# Altium footprint library PGA208E.PcbLib: 1 footprints
Each footprint in its own frame and in the unit in brackets; x right, y up, seen from the top. Pads: shape width x height; smd on the part's side, far side on the other; paste and mask are expansions set on the pad; w line width, h text height; cw(c..) or ccw(c..) is an arc to the next point about the centre after c.
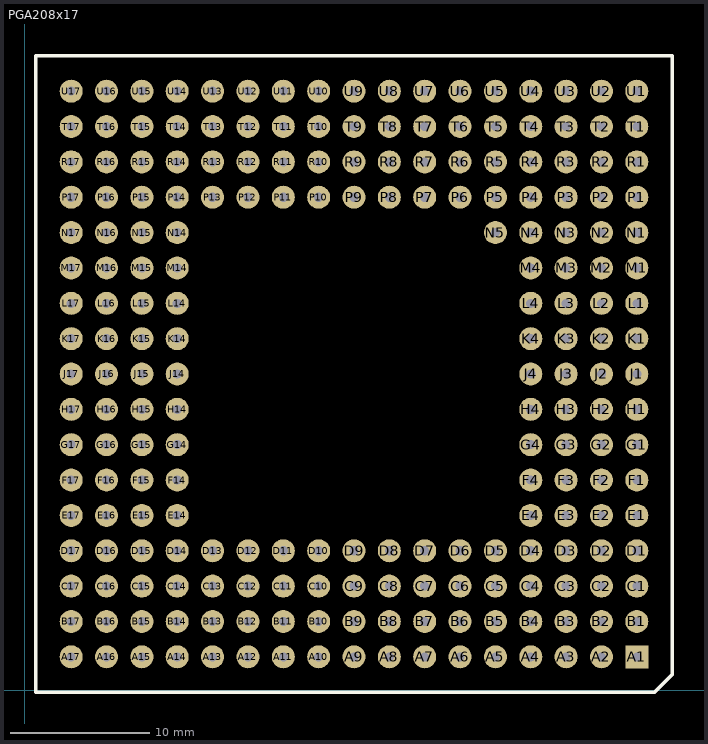
[diagram p0: the footprint, top view; thin cyan lines are the x and y axes]

## PGA208x17 [mm]
height 8.1
pads (209):
  rect 1.651x1.651 hole 0.65: A1(43.975,2.4)
  round 1.651 hole 0.65: A2(41.435,2.4) A3(38.895,2.4) A4(36.355,2.4) A5(33.815,2.4) A6(31.275,2.4) A7(28.735,2.4) A8(26.195,2.4) A9(23.655,2.4) A10(21.115,2.4) A11(18.575,2.4) A12(16.035,2.4) A13(13.495,2.4) A14(10.955,2.4) A15(8.415,2.4) A16(5.875,2.4) A17(3.335,2.4) B1(43.975,4.94) B2(41.435,4.94) B3(38.895,4.94) B4(36.355,4.94) B5(33.815,4.94) B6(31.275,4.94) B7(28.735,4.94) B8(26.195,4.94) B9(23.655,4.94) B10(21.115,4.94) B11(18.575,4.94) B12(16.035,4.94) B13(13.495,4.94) B14(10.955,4.94) B15(8.415,4.94) B16(5.875,4.94) B17(3.335,4.94) C1(43.975,7.48) C2(41.435,7.48) C3(38.895,7.48) C4(36.355,7.48) C5(33.815,7.48) C6(31.275,7.48) C7(28.735,7.48) C8(26.195,7.48) C9(23.655,7.48) C10(21.115,7.48) C11(18.575,7.48) C12(16.035,7.48) C13(13.495,7.48) C14(10.955,7.48) C15(8.415,7.48) C16(5.875,7.48) C17(3.335,7.48) D1(43.975,10.02) D2(41.435,10.02) D3(38.895,10.02) D4(36.355,10.02) D5(33.815,10.02) D6(31.275,10.02) D7(28.735,10.02) D8(26.195,10.02) D9(23.655,10.02) D10(21.115,10.02) D11(18.575,10.02) D12(16.035,10.02) D13(13.495,10.02) D14(10.955,10.02) D15(8.415,10.02) D16(5.875,10.02) D17(3.335,10.02) E1(43.975,12.56) E2(41.435,12.56) E3(38.895,12.56) E4(36.355,12.56) E14(10.955,12.56) E15(8.415,12.56) E16(5.875,12.56) E17(3.335,12.56) F1(43.975,15.1) F2(41.435,15.1) F3(38.895,15.1) F4(36.355,15.1) F14(10.955,15.1) F15(8.415,15.1) F16(5.875,15.1) F17(3.335,15.1) G1(43.975,17.64) G2(41.435,17.64) G3(38.895,17.64) G4(36.355,17.64) G14(10.955,17.64) G15(8.415,17.64) G16(5.875,17.64) G17(3.335,17.64) H1(43.975,20.18) H2(41.435,20.18) H3(38.895,20.18) H4(36.355,20.18) H14(10.955,20.18) H15(8.415,20.18) H16(5.875,20.18) H17(3.335,20.18) J1(43.975,22.72) J2(41.435,22.72) J3(38.895,22.72) J4(36.355,22.72) J14(10.955,22.72) J15(8.415,22.72) J16(5.875,22.72) J17(3.335,22.72) K1(43.975,25.26) K2(41.435,25.26) K3(38.895,25.26) K4(36.355,25.26) K14(10.955,25.26) K15(8.415,25.26) K16(5.875,25.26) K17(3.335,25.26) L1(43.975,27.8) L2(41.435,27.8) L3(38.895,27.8) L4(36.355,27.8) L14(10.955,27.8) L15(8.415,27.8) L16(5.875,27.8) L17(3.335,27.8) M1(43.975,30.34) M2(41.435,30.34) M3(38.895,30.34) M4(36.355,30.34) M14(10.955,30.34) M15(8.415,30.34) M16(5.875,30.34) M17(3.335,30.34) N1(43.975,32.88) N2(41.435,32.88) N3(38.895,32.88) N4(36.355,32.88) N5(33.815,32.88) N14(10.955,32.88) N15(8.415,32.88) N16(5.875,32.88) N17(3.335,32.88) P1(43.975,35.42) P2(41.435,35.42) P3(38.895,35.42) P4(36.355,35.42) P5(33.815,35.42) P6(31.275,35.42) P7(28.735,35.42) P8(26.195,35.42) P9(23.655,35.42) P10(21.115,35.42) P11(18.575,35.42) P12(16.035,35.42) P13(13.495,35.42) P14(10.955,35.42) P15(8.415,35.42) P16(5.875,35.42) P17(3.335,35.42) R1(43.975,37.96) R2(41.435,37.96) R3(38.895,37.96) R4(36.355,37.96) R5(33.815,37.96) R6(31.275,37.96) R7(28.735,37.96) R8(26.195,37.96) R9(23.655,37.96) R10(21.115,37.96) R11(18.575,37.96) R12(16.035,37.96) R13(13.495,37.96) R14(10.955,37.96) R15(8.415,37.96) R16(5.875,37.96) R17(3.335,37.96) T1(43.975,40.5) T2(41.435,40.5) T3(38.895,40.5) T4(36.355,40.5) T5(33.815,40.5) T6(31.275,40.5) T7(28.735,40.5) T8(26.195,40.5) T9(23.655,40.5) T10(21.115,40.5) T11(18.575,40.5) T12(16.035,40.5) T13(13.495,40.5) T14(10.955,40.5) T15(8.415,40.5) T16(5.875,40.5) T17(3.335,40.5) U1(43.975,43.04) U2(41.435,43.04) U3(38.895,43.04) U4(36.355,43.04) U5(33.815,43.04) U6(31.275,43.04) U7(28.735,43.04) U8(26.195,43.04) U9(23.655,43.04) U10(21.115,43.04) U11(18.575,43.04) U12(16.035,43.04) U13(13.495,43.04) U14(10.955,43.04) U15(8.415,43.04) U16(5.875,43.04) U17(3.335,43.04)
Top Overlay:
  lines w0.254: 0.795,-0.14 45.245,-0.14 46.515,1.13 46.515,45.58 0.795,45.58 0.795,-0.14